# EAGLE library part 74HCT245D_652_74HCT245D,652 (library PixelPusherV0)
Octal bus transceiver Check prices <https://pricing.snapeda.com/parts/74HCT245D%2C652/Nexperia/view-part?ref=eda>
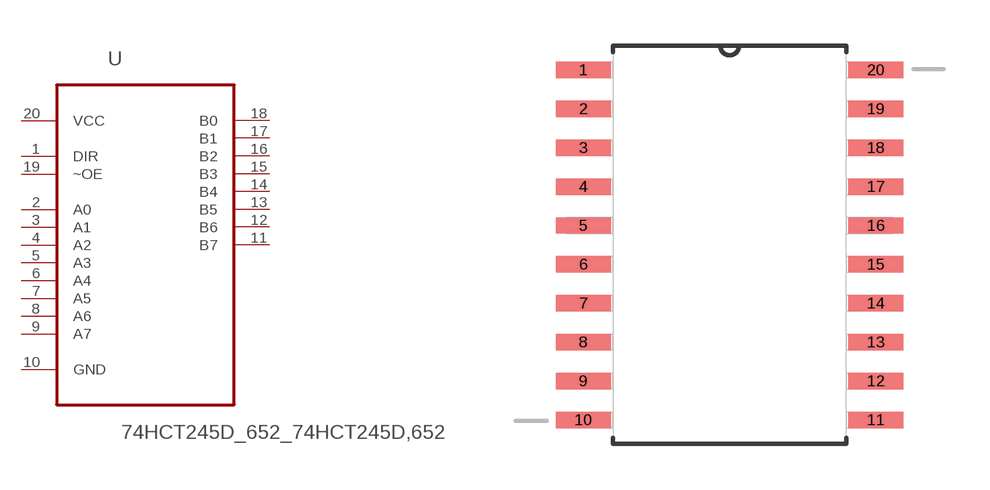
[diagram p0: symbol with the pads of 74HCT245D_652_SOIC127P1032X265-20N; footprint 74HCT245D_652_SOIC127P1032X265-20N]

Designator prefix U

## 74HCT245D_652_74HCT245D,652 (AVAILABILITY: In Stock; DESCRIPTION: Transceiver, Non-Inverting 1 Element 8 Bit per Element 3-State Output 20-SO; MF: Nexperia; MP: 74HCT245D,652; PACKAGE: SO20-20 Nexperia USA Inc.; PRICE: None)  [74HCT245D_652_SOIC127P1032X265-20N]
1  DIR  pas
2  A0
3  A1
4  A2
5  A3
6  A4
7  A5
8  A6
9  A7
10  GND  pas
11  B7
12  B6
13  B5
14  B4
15  B3
16  B2
17  B1
18  B0
19  ~OE  in
20  VCC  pwr

## Footprint 74HCT245D_652_SOIC127P1032X265-20N (pad centres in mm)
smd 1.803 x 0.533: 1 -4.775,5.715; 2 -4.775,4.445; 3 -4.775,3.175; 4 -4.775,1.905; 5 -4.775,0.635; 6 -4.775,-0.635; 7 -4.775,-1.905; 8 -4.775,-3.175; 9 -4.775,-4.445; 10 -4.775,-5.715; 11 4.775,-5.715; 12 4.775,-4.445; 13 4.775,-3.175; 14 4.775,-1.905; 15 4.775,-0.635; 16 4.775,0.635; 17 4.775,1.905; 18 4.775,3.175; 19 4.775,4.445; 20 4.775,5.715